# EAGLE library part HM-10_BREAKOUT (library Liu-Ford-ACP-AUX)
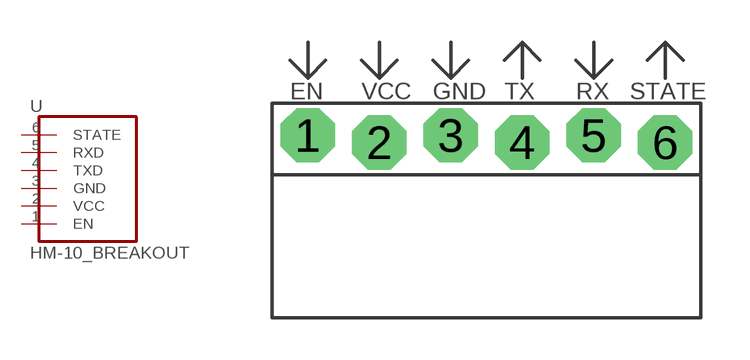
[diagram p2: symbol with the pads of HEADER-6-PIN_LOCK_HM-10; footprint HEADER-6-PIN_LOCK_HM-10]

Designator prefix -

## HM-10_BREAKOUT  [HEADER-6-PIN_LOCK_HM-10]
1  EN  nc
2  VCC  pwr
3  GND  pwr
4  TXD  out
5  RXD  in
6  STATE  out

## Footprint HEADER-6-PIN_LOCK_HM-10 (pad centres in mm)
drill 1.016 pad 1.93 octagon: 1 -6.35,0.127; 2 -3.81,-0.127; 3 -1.27,0.127; 4 1.27,-0.127; 5 3.81,0.127; 6 6.35,-0.127